# EAGLE library part TLV320AIC23B (library X893)
http://focus.ti.com/lit/ds/slws106h/slws106h.pdf
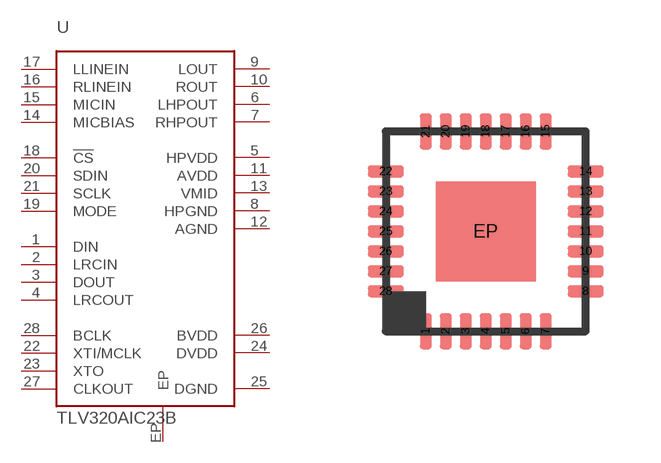
[diagram p65: symbol with the pads of QFN28-5X5; footprint QFN28-5X5]

Designator prefix U

## TLV320AIC23B  [QFN28-5X5]
1  DIN  pas
2  LRCIN  pas
3  DOUT  pas
4  LRCOUT  pas
5  HPVDD  pas
6  LHPOUT  pas
7  RHPOUT  pas
8  HPGND  pas
9  LOUT  pas
10  ROUT  pas
11  AVDD  pas
12  AGND  pas
13  VMID  pas
14  MICBIAS  pas
15  MICIN  pas
16  RLINEIN  pas
17  LLINEIN  pas
18  !CS  pas
19  MODE  pas
20  SDIN  pas
21  SCLK  pas
22  XTI/MCLK  pas
23  XTO  pas
24  DVDD  pas
25  DGND  pas
26  BVDD  pas
27  CLKOUT  pas
28  BCLK  pas
EP  EP  pas

## Footprint QFN28-5X5 (pad centres in mm)
smd 0.3 x 0.9: 1 -1.5,-2.5; 2 -1,-2.5; 3 -0.5,-2.5; 4 0,-2.5; 5 0.5,-2.5; 6 1,-2.5; 7 1.5,-2.5; 15 1.5,2.5; 16 1,2.5; 17 0.5,2.5; 18 0,2.5; 19 -0.5,2.5; 20 -1,2.5; 21 -1.5,2.5
smd 0.9 x 0.3: 8 2.5,-1.5; 9 2.5,-1; 10 2.5,-0.5; 11 2.5,0; 12 2.5,0.5; 13 2.5,1; 14 2.5,1.5; 22 -2.5,1.5; 23 -2.5,1; 24 -2.5,0.5; 25 -2.5,0; 26 -2.5,-0.5; 27 -2.5,-1; 28 -2.5,-1.5
smd 0.5 x 0.5: EP 0,0